# Altium footprint library AYF531635.PcbLib: 1 footprints
Each footprint in its own frame and in the unit in brackets; x right, y up, seen from the top. Pads: shape width x height; smd on the part's side, far side on the other; paste and mask are expansions set on the pad; w line width, h text height; cw(c..) or ccw(c..) is an arc to the next point about the centre after c.
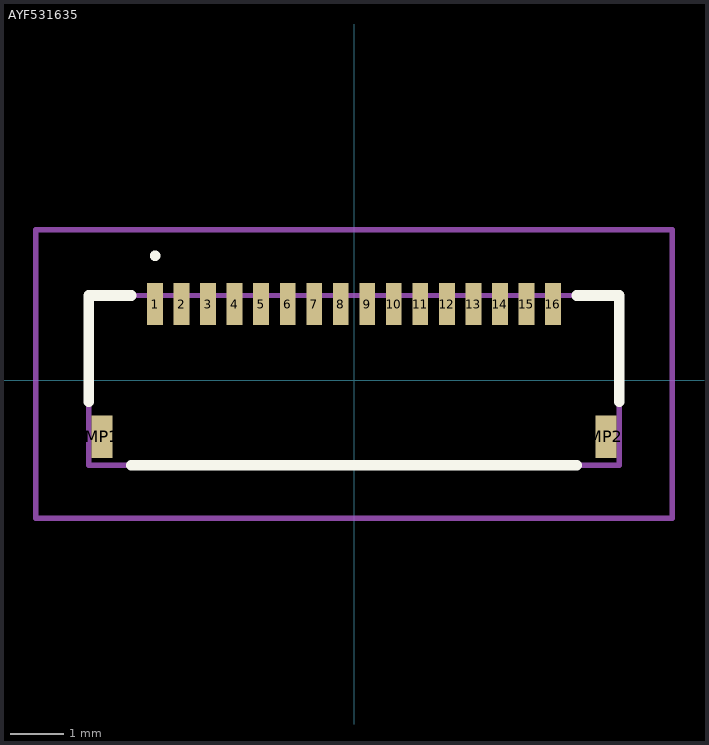
[diagram p0: the footprint, top view; thin cyan lines are the x and y axes]

## AYF531635 [mm]
pads (18):
  rect 0.3x0.8 smd: 1(-3.75,1.44) 2(-3.25,1.44) 3(-2.75,1.44) 4(-2.25,1.44) 5(-1.75,1.44) 6(-1.25,1.44) 7(-0.75,1.44) 8(-0.25,1.44) 9(0.25,1.44) 10(0.75,1.44) 11(1.25,1.44) 12(1.75,1.44) 13(2.25,1.44) 14(2.75,1.44) 15(3.25,1.44) 16(3.75,1.44)
  rect 0.4x0.8 smd: MP1(-4.75,-1.06) MP2(4.75,-1.06)
Top Overlay:
  lines w0.1: -3.75,2.3 cw(c-3.75,2.35) -3.75,2.4 ; -3.75,2.3 -3.75,2.3 ; -3.75,2.3 ccw(c-3.75,2.35) -3.75,2.4 ; -3.75,2.4 -3.75,2.4
  lines w0.2: -5,-0.4 -5,1.6 -4.2,1.6 ; -4.2,-1.6 4.2,-1.6 ; 4.2,1.6 5,1.6 5,-0.4
Mechanical 15:
  lines w0.1: -5,-1.6 5,-1.6 5,1.6 -5,1.6 -5,-1.6
Mechanical 20:
  lines w0.1: -6,-2.6 6,-2.6 6,2.84 -6,2.84 -6,-2.6